# Altium schematic symbol library Timer_PLL.SchLib: 21 symbols
Pins are listed as number, name and electrical type; pins without a type are passive.

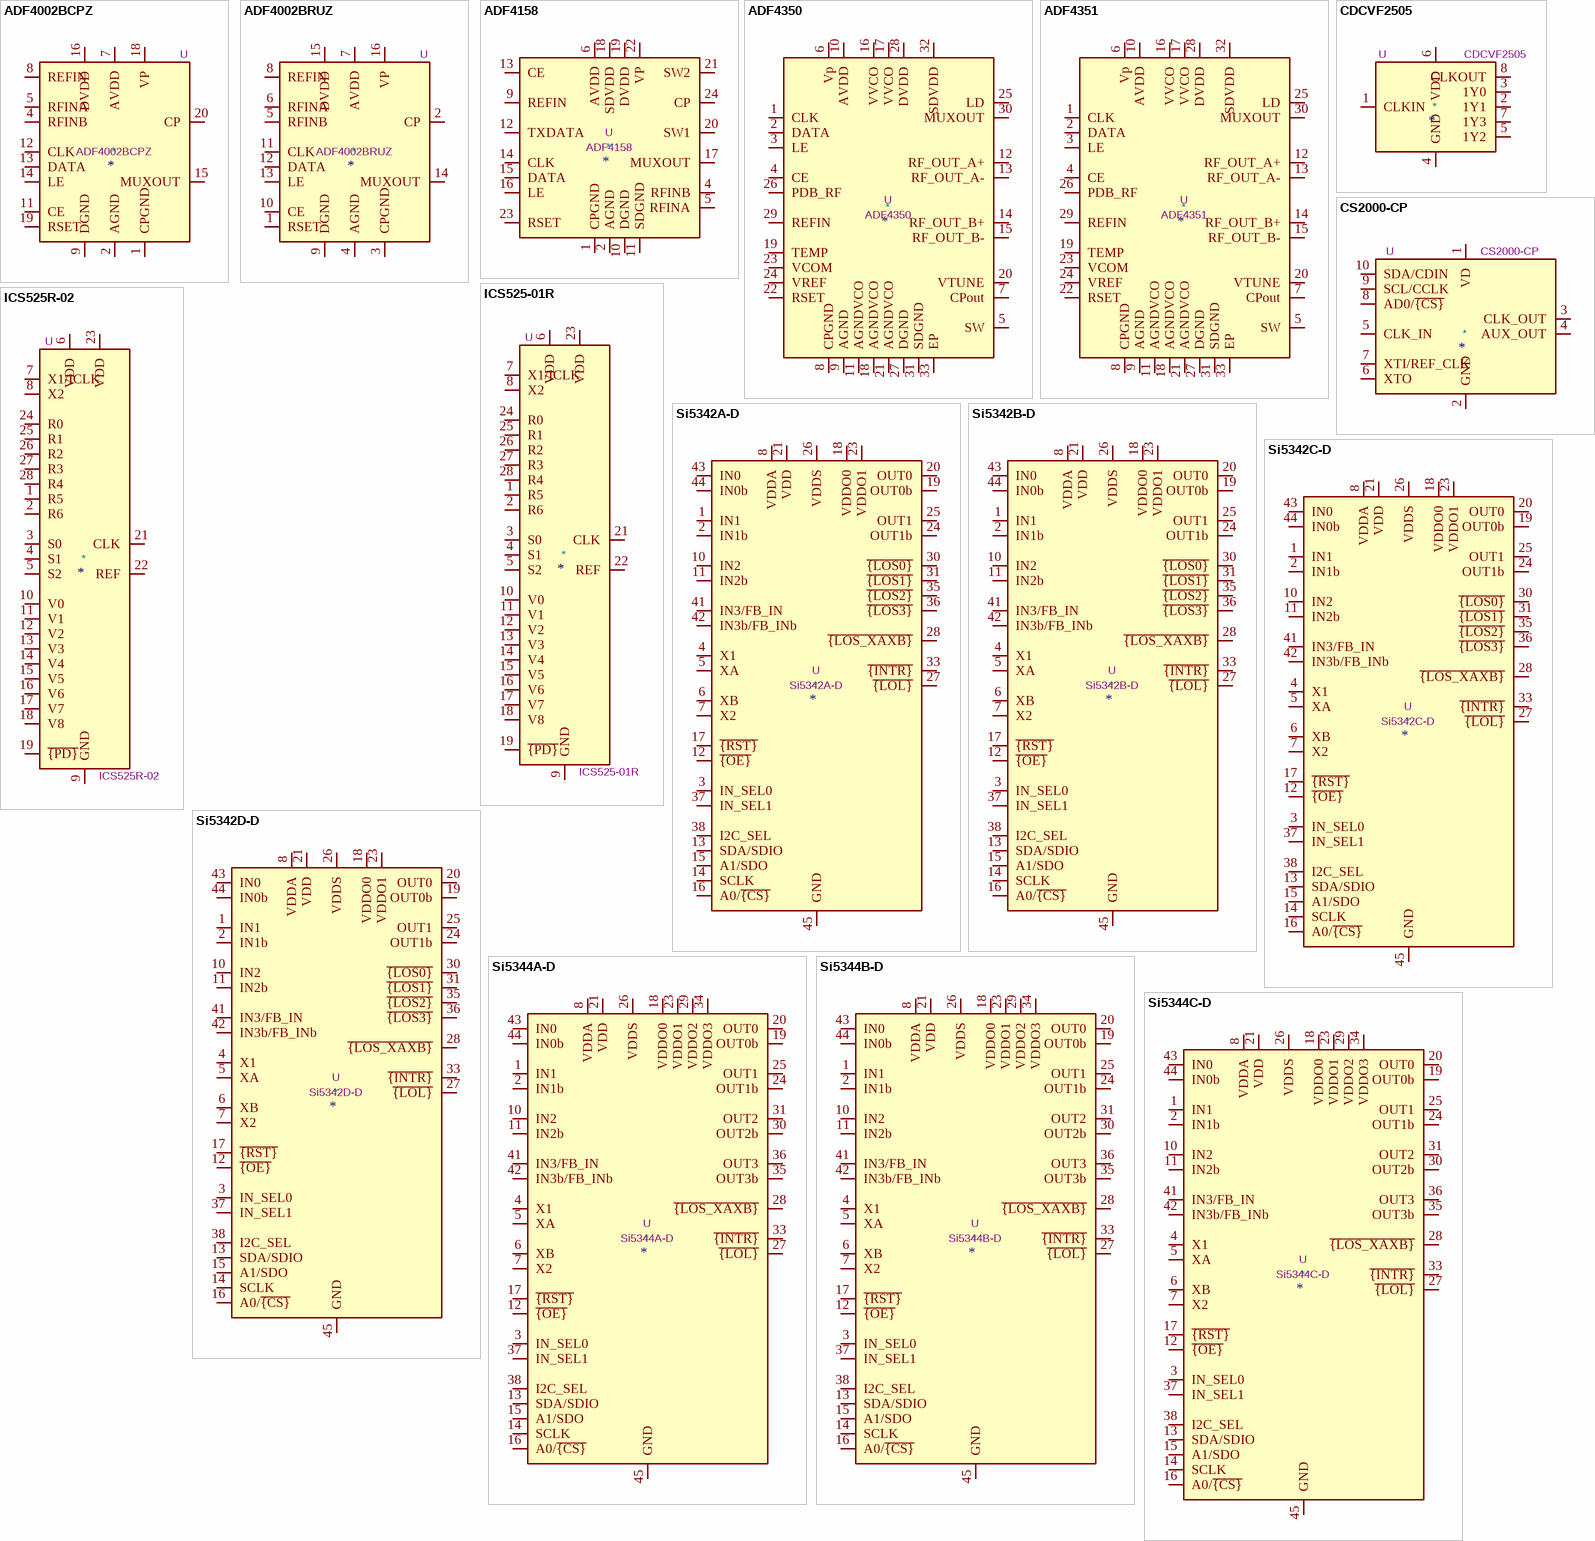
[diagram p0: symbols ADF4002BCPZ to Si5344C-D]

## ADF4002BCPZ
designator *  value ADF4002BCPZ  Reference: U
ki_keywords: Analog Devices PFD; ki_description: 400MHz Bandwidth Frequency Synthesizer, LFCSP-20; ki_fp_filters: LFCSP*1EP*4x4mm*P0.5mm*; Footprint: Package_CSP:LFCSP-20-1EP_4x4mm_P0.5mm_EP2.1x2.1mm; Datasheet: https://www.analog.com/media/en/technical-documentation/data-sheets/ADF4002.pdf
pins: 1 CPGND, 2 AGND, 3 AGND hidden, 4 RFINB, 5 RFINA, 6 AVDD hidden, 7 AVDD, 8 REFIN, 9 DGND, 10 DGND hidden, 11 CE, 12 CLK, 13 DATA, 14 LE, 15 MUXOUT, 16 DVDD, 17 DVDD hidden, 18 VP, 19 RSET, 20 CP, 21 AGND hidden

## ADF4002BRUZ
designator *  value ADF4002BRUZ  Reference: U
ki_keywords: Analog Devices PFD; ki_description: 400MHz Bandwidth Frequency Synthesizer, TSSOP-16; ki_fp_filters: TSSOP*4.4x5mm*P0.65mm*; Footprint: Package_SO:TSSOP-16_4.4x5mm_P0.65mm; Datasheet: https://www.analog.com/media/en/technical-documentation/data-sheets/ADF4002.pdf
pins: 1 RSET, 2 CP, 3 CPGND, 4 AGND, 5 RFINB, 6 RFINA, 7 AVDD, 8 REFIN, 9 DGND, 10 CE, 11 CLK, 12 DATA, 13 LE, 14 MUXOUT, 15 DVDD, 16 VP

## ADF4158
designator *  value ADF4158  Reference: U
ki_keywords: fractional-N PLL; ki_description: 0.5-6.1GHz fractional-N PLL, LFCSP-24; ki_fp_filters: LFCSP*1EP*4x4mm*P0.5mm*; Footprint: Package_CSP:LFCSP-24-1EP_4x4mm_P0.5mm_EP2.5x2.5mm; Datasheet: https://www.analog.com/media/en/technical-documentation/data-sheets/ADF4158.pdf
pins: 1 CPGND, 2 AGND, 3 AGND hidden, 4 RFINB, 5 RFINA, 6 AVDD, 7 AVDD hidden, 8 AVDD hidden, 9 REFIN, 10 DGND, 11 SDGND, 12 TXDATA, 13 CE, 14 CLK, 15 DATA, 16 LE, 17 MUXOUT, 18 SDVDD, 19 DVDD, 20 SW1, 21 SW2, 22 VP, 23 RSET, 24 CP, 25 AGND hidden

## ADF4350
designator *  value ADF4350  Reference: U
ki_keywords: fractional-N PLL; ki_description: 137.5-4400MHz fractional-N PLL, LFCSP-32; ki_fp_filters: LFCSP*32*1EP*5x5mm*P0.5mm*EP3.25x3.25mm*; Footprint: Package_CSP:LFCSP-32-1EP_5x5mm_P0.5mm_EP3.25x3.25mm; Datasheet: https://www.analog.com/media/en/technical-documentation/data-sheets/ADF4350.pdf
pins: 1 CLK, 2 DATA, 3 LE, 4 CE, 5 SW, 6 Vp, 7 CPout, 8 CPGND, 9 AGND, 10 AVDD, 11 AGNDVCO, 12 RF_OUT_A+, 13 RF_OUT_A-, 14 RF_OUT_B+, 15 RF_OUT_B-, 16 VVCO, 17 VVCO, 18 AGNDVCO, 19 TEMP, 20 VTUNE, 21 AGNDVCO, 22 RSET, 23 VCOM, 24 VREF, 25 LD, 26 PDB_RF, 27 DGND, 28 DVDD, 29 REFIN, 30 MUXOUT, 31 SDGND, 32 SDVDD, 33 EP

## ADF4351
designator *  value ADF4351  Reference: U
ki_keywords: fractional-N PLL; ki_description: 35-4400MHz fractional-N PLL, LFCSP-32; ki_fp_filters: LFCSP*32*1EP*5x5mm*P0.5mm*EP3.25x3.25mm*; Footprint: Package_CSP:LFCSP-32-1EP_5x5mm_P0.5mm_EP3.25x3.25mm; Datasheet: https://www.analog.com/media/en/technical-documentation/data-sheets/ADF4351.pdf
pins: 1 CLK, 2 DATA, 3 LE, 4 CE, 5 SW, 6 Vp, 7 CPout, 8 CPGND, 9 AGND, 10 AVDD, 11 AGNDVCO, 12 RF_OUT_A+, 13 RF_OUT_A-, 14 RF_OUT_B+, 15 RF_OUT_B-, 16 VVCO, 17 VVCO, 18 AGNDVCO, 19 TEMP, 20 VTUNE, 21 AGNDVCO, 22 RSET, 23 VCOM, 24 VREF, 25 LD, 26 PDB_RF, 27 DGND, 28 DVDD, 29 REFIN, 30 MUXOUT, 31 SDGND, 32 SDVDD, 33 EP

## CDCVF2505
designator *  value CDCVF2505  Reference: U
ki_keywords: pll clock driver; ki_description: Clock Phase-Lock Loop Clock Driver, 24-200MHz, 3.3V, SOIC-8/TSSOP-8; ki_fp_filters: SOIC*3.9x4.9mm*P1.27mm* TSSOP*4.4x3mm*P0.65mm*; Datasheet: http://www.ti.com/lit/ds/symlink/cdcvf2505.pdf
pins: 1 CLKIN, 2 1Y1, 3 1Y0, 4 GND, 5 1Y2, 6 VDD, 7 1Y3, 8 CLKOUT

## CS2000-CP
designator *  value CS2000-CP  Reference: U
ki_keywords: Clock Synthesizer Multiplier; ki_description: Fractional-N Clock Synthesizer & Clock Multiplier, MSOP-10; ki_fp_filters: MSOP*3x3mm*P0.5mm*; Footprint: Package_SO:MSOP-10_3x3mm_P0.5mm; Datasheet: https://statics.cirrus.com/pubs/proDatasheet/CS2000-CP_F3.pdf
pins: 1 VD, 2 GND, 3 CLK_OUT, 4 AUX_OUT, 5 CLK_IN, 6 XTO, 7 XTI/REF_CLK, 8 AD0/~{{CS}}, 9 SCL/CCLK, 10 SDA/CDIN

## ICS525-01R
designator *  value ICS525-01R  Reference: U
ki_keywords: Configurable clock; ki_description: User configurable clock up to 160 MHz, SSOP-28; ki_fp_filters: SSOP*3.9x9.9mm*P0.635mm*; Footprint: Package_SO:SSOP-28_3.9x9.9mm_P0.635mm; Datasheet: https://www.idt.com/document/dst/525-01-02-datasheet
pins: 1 R5, 2 R6, 3 S0, 4 S1, 5 S2, 6 VDD, 7 X1/ICLK, 8 X2, 9 GND, 10 V0, 11 V1, 12 V2, 13 V3, 14 V4, 15 V5, 16 V6, 17 V7, 18 V8, 19 ~{{PD}}, 20 GND hidden, 21 CLK, 22 REF, 23 VDD, 24 R0, 25 R1, 26 R2, 27 R3, 28 R4

## ICS525R-02
designator *  value ICS525R-02  Reference: U
ki_keywords: Configurable clock; ki_description: User configurable clock up to 200 MHz, SSOP-28; ki_fp_filters: SSOP*3.9x9.9mm*P0.635mm*; Footprint: Package_SO:SSOP-28_3.9x9.9mm_P0.635mm; Datasheet: https://www.idt.com/document/dst/525-01-02-datasheet
pins: 1 R5, 2 R6, 3 S0, 4 S1, 5 S2, 6 VDD, 7 X1/ICLK, 8 X2, 9 GND, 10 V0, 11 V1, 12 V2, 13 V3, 14 V4, 15 V5, 16 V6, 17 V7, 18 V8, 19 ~{{PD}}, 20 GND hidden, 21 CLK, 22 REF, 23 VDD, 24 R0, 25 R1, 26 R2, 27 R3, 28 R4

## Si5342A-D
designator *  value Si5342A-D  Reference: U
ki_keywords: Clock Jitter Attenuator Multiplier; ki_description: Jitter Attenuator/Clock Multiplier, 2 channel, Fractional, 0.001-1028 MHz, QFN-44; ki_fp_filters: QFN*1EP*7x7mm*P0.5mm*; Footprint: Package_DFN_QFN:QFN-44-1EP_7x7mm_P0.5mm_EP5.2x5.2mm; Datasheet: https://www.silabs.com/documents/public/data-sheets/Si5345-44-42-D-DataSheet.pdf
pins: 1 IN1, 2 IN1b, 3 IN_SEL0, 4 X1, 5 XA, 6 XB, 7 X2, 8 VDDA, 9 VDDA hidden, 10 IN2, 11 IN2b, 12 ~{{OE}}, 13 SDA/SDIO, 14 SCLK, 15 A1/SDO, 16 A0/~{{CS}}, 17 ~{{RST}}, 18 VDDO0, 19 OUT0b, 20 OUT0, 21 VDD, 22 NC hidden, 23 VDDO1, 24 OUT1b, 25 OUT1, 26 VDDS, 27 ~{{LOL}}, 28 ~{{LOS_XAXB}}, 29 VDDS hidden, 30 ~{{LOS0}}, 31 ~{{LOS1}}, 32 VDD hidden, 33 ~{{INTR}}, 34 VDDS hidden, 35 ~{{LOS2}}, 36 ~{{LOS3}}, 37 IN_SEL1, 38 I2C_SEL, 39 VDD hidden, 40 VDD hidden, 41 IN3/FB_IN, 42 IN3b/FB_INb, 43 IN0, 44 IN0b, 45 GND

## Si5342B-D
designator *  value Si5342B-D  Reference: U
ki_keywords: Clock Jitter Attenuator Multiplier; ki_description: Jitter Attenuator/Clock Multiplier, 2 channel, Fractional, 0.001-350 MHz, QFN-44; ki_fp_filters: QFN*1EP*7x7mm*P0.5mm*; Footprint: Package_DFN_QFN:QFN-44-1EP_7x7mm_P0.5mm_EP5.2x5.2mm; Datasheet: https://www.silabs.com/documents/public/data-sheets/Si5345-44-42-D-DataSheet.pdf
pins: 1 IN1, 2 IN1b, 3 IN_SEL0, 4 X1, 5 XA, 6 XB, 7 X2, 8 VDDA, 9 VDDA hidden, 10 IN2, 11 IN2b, 12 ~{{OE}}, 13 SDA/SDIO, 14 SCLK, 15 A1/SDO, 16 A0/~{{CS}}, 17 ~{{RST}}, 18 VDDO0, 19 OUT0b, 20 OUT0, 21 VDD, 22 NC hidden, 23 VDDO1, 24 OUT1b, 25 OUT1, 26 VDDS, 27 ~{{LOL}}, 28 ~{{LOS_XAXB}}, 29 VDDS hidden, 30 ~{{LOS0}}, 31 ~{{LOS1}}, 32 VDD hidden, 33 ~{{INTR}}, 34 VDDS hidden, 35 ~{{LOS2}}, 36 ~{{LOS3}}, 37 IN_SEL1, 38 I2C_SEL, 39 VDD hidden, 40 VDD hidden, 41 IN3/FB_IN, 42 IN3b/FB_INb, 43 IN0, 44 IN0b, 45 GND

## Si5342C-D
designator *  value Si5342C-D  Reference: U
ki_keywords: Clock Jitter Attenuator Multiplier; ki_description: Jitter Attenuator/Clock Multiplier, 2 channel, Integer, 0.001-1028 MHz, QFN-44; ki_fp_filters: QFN*1EP*7x7mm*P0.5mm*; Footprint: Package_DFN_QFN:QFN-44-1EP_7x7mm_P0.5mm_EP5.2x5.2mm; Datasheet: https://www.silabs.com/documents/public/data-sheets/Si5345-44-42-D-DataSheet.pdf
pins: 1 IN1, 2 IN1b, 3 IN_SEL0, 4 X1, 5 XA, 6 XB, 7 X2, 8 VDDA, 9 VDDA hidden, 10 IN2, 11 IN2b, 12 ~{{OE}}, 13 SDA/SDIO, 14 SCLK, 15 A1/SDO, 16 A0/~{{CS}}, 17 ~{{RST}}, 18 VDDO0, 19 OUT0b, 20 OUT0, 21 VDD, 22 NC hidden, 23 VDDO1, 24 OUT1b, 25 OUT1, 26 VDDS, 27 ~{{LOL}}, 28 ~{{LOS_XAXB}}, 29 VDDS hidden, 30 ~{{LOS0}}, 31 ~{{LOS1}}, 32 VDD hidden, 33 ~{{INTR}}, 34 VDDS hidden, 35 ~{{LOS2}}, 36 ~{{LOS3}}, 37 IN_SEL1, 38 I2C_SEL, 39 VDD hidden, 40 VDD hidden, 41 IN3/FB_IN, 42 IN3b/FB_INb, 43 IN0, 44 IN0b, 45 GND

## Si5342D-D
designator *  value Si5342D-D  Reference: U
ki_keywords: Clock Jitter Attenuator Multiplier; ki_description: Jitter Attenuator/Clock Multiplier, 2 channel, Integer, 0.001-350 MHz, QFN-44; ki_fp_filters: QFN*1EP*7x7mm*P0.5mm*; Footprint: Package_DFN_QFN:QFN-44-1EP_7x7mm_P0.5mm_EP5.2x5.2mm; Datasheet: https://www.silabs.com/documents/public/data-sheets/Si5345-44-42-D-DataSheet.pdf
pins: 1 IN1, 2 IN1b, 3 IN_SEL0, 4 X1, 5 XA, 6 XB, 7 X2, 8 VDDA, 9 VDDA hidden, 10 IN2, 11 IN2b, 12 ~{{OE}}, 13 SDA/SDIO, 14 SCLK, 15 A1/SDO, 16 A0/~{{CS}}, 17 ~{{RST}}, 18 VDDO0, 19 OUT0b, 20 OUT0, 21 VDD, 22 NC hidden, 23 VDDO1, 24 OUT1b, 25 OUT1, 26 VDDS, 27 ~{{LOL}}, 28 ~{{LOS_XAXB}}, 29 VDDS hidden, 30 ~{{LOS0}}, 31 ~{{LOS1}}, 32 VDD hidden, 33 ~{{INTR}}, 34 VDDS hidden, 35 ~{{LOS2}}, 36 ~{{LOS3}}, 37 IN_SEL1, 38 I2C_SEL, 39 VDD hidden, 40 VDD hidden, 41 IN3/FB_IN, 42 IN3b/FB_INb, 43 IN0, 44 IN0b, 45 GND

## Si5344A-D
designator *  value Si5344A-D  Reference: U
ki_keywords: Clock Jitter Attenuator Multiplier; ki_description: Jitter Attenuator/Clock Multiplier, 4 channel, Fractional, 0.001-1028 MHz, QFN-44; ki_fp_filters: QFN*1EP*7x7mm*P0.5mm*; Footprint: Package_DFN_QFN:QFN-44-1EP_7x7mm_P0.5mm_EP5.2x5.2mm; Datasheet: https://www.silabs.com/documents/public/data-sheets/Si5345-44-42-D-DataSheet.pdf
pins: 1 IN1, 2 IN1b, 3 IN_SEL0, 4 X1, 5 XA, 6 XB, 7 X2, 8 VDDA, 9 VDDA hidden, 10 IN2, 11 IN2b, 12 ~{{OE}}, 13 SDA/SDIO, 14 SCLK, 15 A1/SDO, 16 A0/~{{CS}}, 17 ~{{RST}}, 18 VDDO0, 19 OUT0b, 20 OUT0, 21 VDD, 22 NC hidden, 23 VDDO1, 24 OUT1b, 25 OUT1, 26 VDDS, 27 ~{{LOL}}, 28 ~{{LOS_XAXB}}, 29 VDDO2, 30 OUT2b, 31 OUT2, 32 VDD hidden, 33 ~{{INTR}}, 34 VDDO3, 35 OUT3b, 36 OUT3, 37 IN_SEL1, 38 I2C_SEL, 39 VDD hidden, 40 VDD hidden, 41 IN3/FB_IN, 42 IN3b/FB_INb, 43 IN0, 44 IN0b, 45 GND

## Si5344B-D
designator *  value Si5344B-D  Reference: U
ki_keywords: Clock Jitter Attenuator Multiplier; ki_description: Jitter Attenuator/Clock Multiplier, 4 channel, Fractional, 0.001-350 MHz, QFN-44; ki_fp_filters: QFN*1EP*7x7mm*P0.5mm*; Footprint: Package_DFN_QFN:QFN-44-1EP_7x7mm_P0.5mm_EP5.2x5.2mm; Datasheet: https://www.silabs.com/documents/public/data-sheets/Si5345-44-42-D-DataSheet.pdf
pins: 1 IN1, 2 IN1b, 3 IN_SEL0, 4 X1, 5 XA, 6 XB, 7 X2, 8 VDDA, 9 VDDA hidden, 10 IN2, 11 IN2b, 12 ~{{OE}}, 13 SDA/SDIO, 14 SCLK, 15 A1/SDO, 16 A0/~{{CS}}, 17 ~{{RST}}, 18 VDDO0, 19 OUT0b, 20 OUT0, 21 VDD, 22 NC hidden, 23 VDDO1, 24 OUT1b, 25 OUT1, 26 VDDS, 27 ~{{LOL}}, 28 ~{{LOS_XAXB}}, 29 VDDO2, 30 OUT2b, 31 OUT2, 32 VDD hidden, 33 ~{{INTR}}, 34 VDDO3, 35 OUT3b, 36 OUT3, 37 IN_SEL1, 38 I2C_SEL, 39 VDD hidden, 40 VDD hidden, 41 IN3/FB_IN, 42 IN3b/FB_INb, 43 IN0, 44 IN0b, 45 GND

## Si5344C-D
designator *  value Si5344C-D  Reference: U
ki_keywords: Clock Jitter Attenuator Multiplier; ki_description: Jitter Attenuator/Clock Multiplier, 4 channel, Integer, 0.001-1028 MHz, QFN-44; ki_fp_filters: QFN*1EP*7x7mm*P0.5mm*; Footprint: Package_DFN_QFN:QFN-44-1EP_7x7mm_P0.5mm_EP5.2x5.2mm; Datasheet: https://www.silabs.com/documents/public/data-sheets/Si5345-44-42-D-DataSheet.pdf
pins: 1 IN1, 2 IN1b, 3 IN_SEL0, 4 X1, 5 XA, 6 XB, 7 X2, 8 VDDA, 9 VDDA hidden, 10 IN2, 11 IN2b, 12 ~{{OE}}, 13 SDA/SDIO, 14 SCLK, 15 A1/SDO, 16 A0/~{{CS}}, 17 ~{{RST}}, 18 VDDO0, 19 OUT0b, 20 OUT0, 21 VDD, 22 NC hidden, 23 VDDO1, 24 OUT1b, 25 OUT1, 26 VDDS, 27 ~{{LOL}}, 28 ~{{LOS_XAXB}}, 29 VDDO2, 30 OUT2b, 31 OUT2, 32 VDD hidden, 33 ~{{INTR}}, 34 VDDO3, 35 OUT3b, 36 OUT3, 37 IN_SEL1, 38 I2C_SEL, 39 VDD hidden, 40 VDD hidden, 41 IN3/FB_IN, 42 IN3b/FB_INb, 43 IN0, 44 IN0b, 45 GND

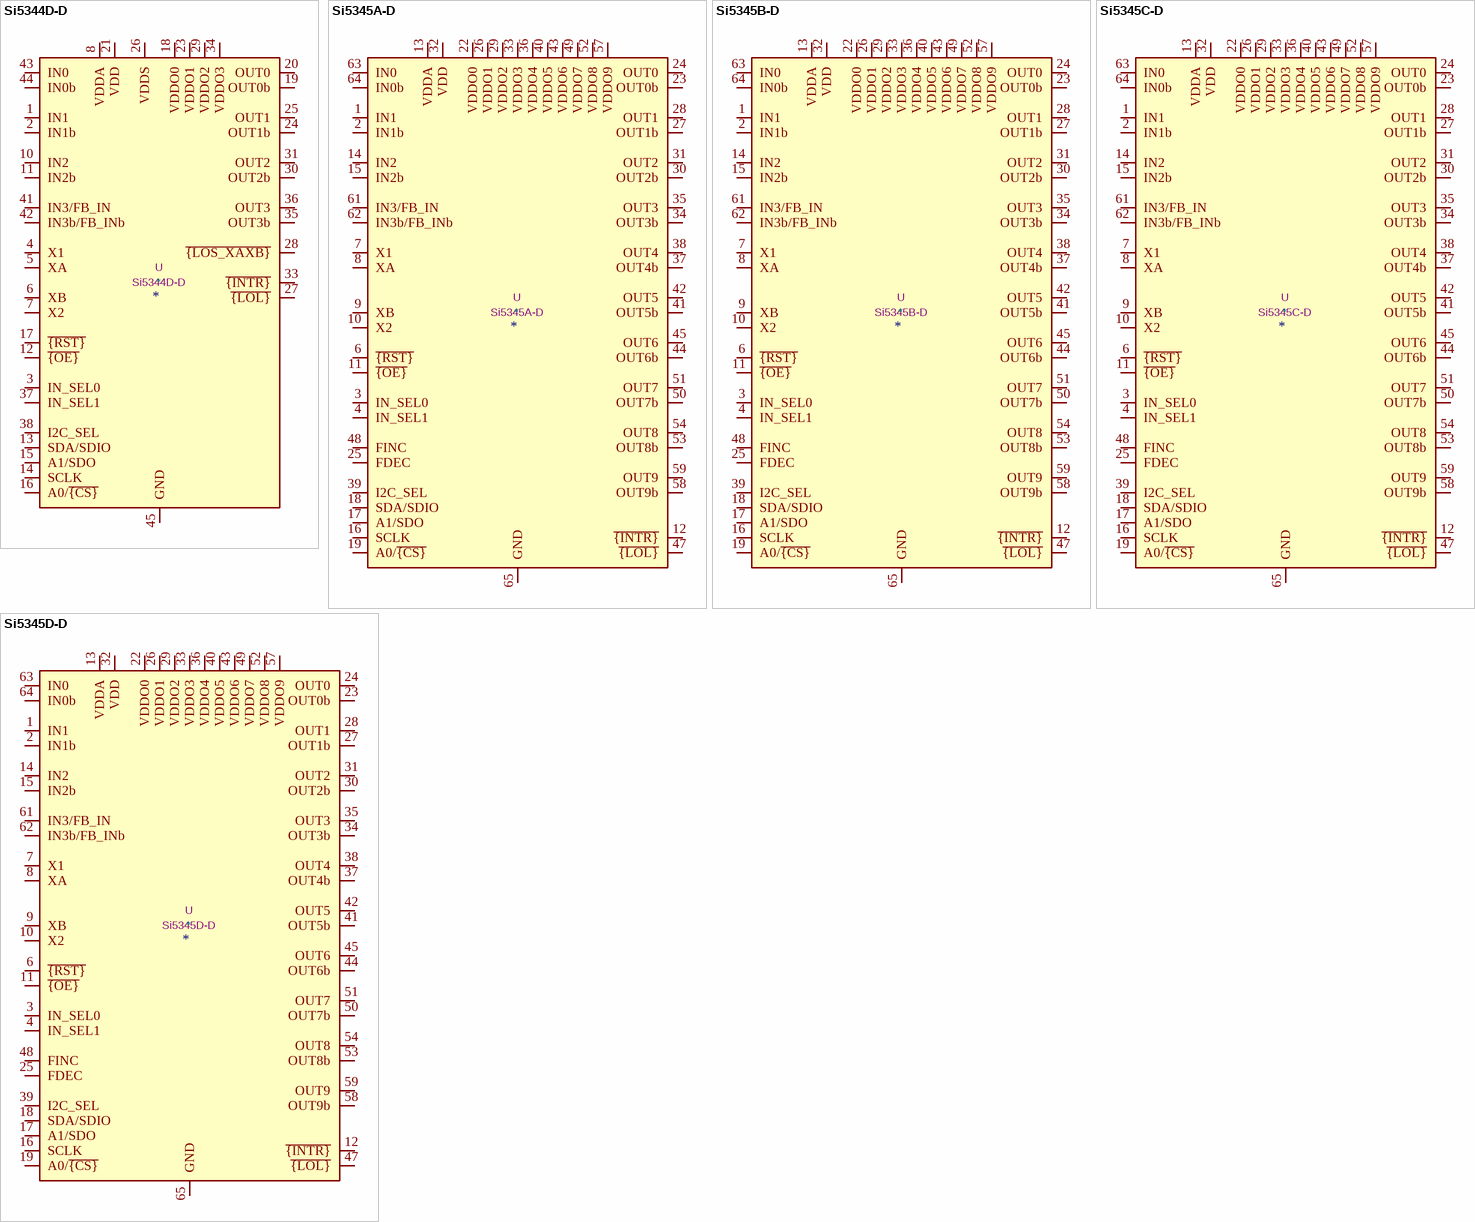
[diagram p1: symbols Si5344D-D to Si5345D-D]

## Si5344D-D
designator *  value Si5344D-D  Reference: U
ki_keywords: Clock Jitter Attenuator Multiplier; ki_description: Jitter Attenuator/Clock Multiplier, 4 channel, Integer, 0.001-350 MHz, QFN-44; ki_fp_filters: QFN*1EP*7x7mm*P0.5mm*; Footprint: Package_DFN_QFN:QFN-44-1EP_7x7mm_P0.5mm_EP5.2x5.2mm; Datasheet: https://www.silabs.com/documents/public/data-sheets/Si5345-44-42-D-DataSheet.pdf
pins: 1 IN1, 2 IN1b, 3 IN_SEL0, 4 X1, 5 XA, 6 XB, 7 X2, 8 VDDA, 9 VDDA hidden, 10 IN2, 11 IN2b, 12 ~{{OE}}, 13 SDA/SDIO, 14 SCLK, 15 A1/SDO, 16 A0/~{{CS}}, 17 ~{{RST}}, 18 VDDO0, 19 OUT0b, 20 OUT0, 21 VDD, 22 NC hidden, 23 VDDO1, 24 OUT1b, 25 OUT1, 26 VDDS, 27 ~{{LOL}}, 28 ~{{LOS_XAXB}}, 29 VDDO2, 30 OUT2b, 31 OUT2, 32 VDD hidden, 33 ~{{INTR}}, 34 VDDO3, 35 OUT3b, 36 OUT3, 37 IN_SEL1, 38 I2C_SEL, 39 VDD hidden, 40 VDD hidden, 41 IN3/FB_IN, 42 IN3b/FB_INb, 43 IN0, 44 IN0b, 45 GND

## Si5345A-D
designator *  value Si5345A-D  Reference: U
ki_keywords: Clock Jitter Attenuator Multiplier; ki_description: Jitter Attenuator/Clock Multiplier, 10-channel, Fractional, 0.001-1028 MHz, QFN-64; ki_fp_filters: QFN*1EP*9x9mm*P0.5mm*; Footprint: Package_DFN_QFN:QFN-64-1EP_9x9mm_P0.5mm_EP5.2x5.2mm; Datasheet: https://www.silabs.com/documents/public/data-sheets/Si5345-44-42-D-DataSheet.pdf
pins: 1 IN1, 2 IN1b, 3 IN_SEL0, 4 IN_SEL1, 5 NC hidden, 6 ~{{RST}}, 7 X1, 8 XA, 9 XB, 10 X2, 11 ~{{OE}}, 12 ~{{INTR}}, 13 VDDA, 14 IN2, 15 IN2b, 16 SCLK, 17 A1/SDO, 18 SDA/SDIO, 19 A0/~{{CS}}, 20 NC hidden, 21 NC hidden, 22 VDDO0, 23 OUT0b, 24 OUT0, 25 FDEC, 26 VDDO1, 27 OUT1b, 28 OUT1, 29 VDDO2, 30 OUT2b, 31 OUT2, 32 VDD, 33 VDDO3, 34 OUT3b, 35 OUT3, 36 VDDO4, 37 OUT4b, 38 OUT4, 39 I2C_SEL, 40 VDDO5, 41 OUT5b, 42 OUT5, 43 VDDO6, 44 OUT6b, 45 OUT6, 46 VDD hidden, 47 ~{{LOL}}, 48 FINC, 49 VDDO7, 50 OUT7b, 51 OUT7, 52 VDDO8, 53 OUT8b, 54 OUT8, 55 NC hidden, 56 NC hidden, 57 VDDO9, 58 OUT9b, 59 OUT9, 60 VDD hidden, 61 IN3/FB_IN, 62 IN3b/FB_INb, 63 IN0, 64 IN0b, 65 GND

## Si5345B-D
designator *  value Si5345B-D  Reference: U
ki_keywords: Clock Jitter Attenuator Multiplier; ki_description: Jitter Attenuator/Clock Multiplier, 10-channel, Fractional, 0.001-350 MHz, QFN-64; ki_fp_filters: QFN*1EP*9x9mm*P0.5mm*; Footprint: Package_DFN_QFN:QFN-64-1EP_9x9mm_P0.5mm_EP5.2x5.2mm; Datasheet: https://www.silabs.com/documents/public/data-sheets/Si5345-44-42-D-DataSheet.pdf
pins: 1 IN1, 2 IN1b, 3 IN_SEL0, 4 IN_SEL1, 5 NC hidden, 6 ~{{RST}}, 7 X1, 8 XA, 9 XB, 10 X2, 11 ~{{OE}}, 12 ~{{INTR}}, 13 VDDA, 14 IN2, 15 IN2b, 16 SCLK, 17 A1/SDO, 18 SDA/SDIO, 19 A0/~{{CS}}, 20 NC hidden, 21 NC hidden, 22 VDDO0, 23 OUT0b, 24 OUT0, 25 FDEC, 26 VDDO1, 27 OUT1b, 28 OUT1, 29 VDDO2, 30 OUT2b, 31 OUT2, 32 VDD, 33 VDDO3, 34 OUT3b, 35 OUT3, 36 VDDO4, 37 OUT4b, 38 OUT4, 39 I2C_SEL, 40 VDDO5, 41 OUT5b, 42 OUT5, 43 VDDO6, 44 OUT6b, 45 OUT6, 46 VDD hidden, 47 ~{{LOL}}, 48 FINC, 49 VDDO7, 50 OUT7b, 51 OUT7, 52 VDDO8, 53 OUT8b, 54 OUT8, 55 NC hidden, 56 NC hidden, 57 VDDO9, 58 OUT9b, 59 OUT9, 60 VDD hidden, 61 IN3/FB_IN, 62 IN3b/FB_INb, 63 IN0, 64 IN0b, 65 GND

## Si5345C-D
designator *  value Si5345C-D  Reference: U
ki_keywords: Clock Jitter Attenuator Multiplier; ki_description: Jitter Attenuator/Clock Multiplier, 10-channel, Integer, 0.001-1028 MHz, QFN-64; ki_fp_filters: QFN*1EP*9x9mm*P0.5mm*; Footprint: Package_DFN_QFN:QFN-64-1EP_9x9mm_P0.5mm_EP5.2x5.2mm; Datasheet: https://www.silabs.com/documents/public/data-sheets/Si5345-44-42-D-DataSheet.pdf
pins: 1 IN1, 2 IN1b, 3 IN_SEL0, 4 IN_SEL1, 5 NC hidden, 6 ~{{RST}}, 7 X1, 8 XA, 9 XB, 10 X2, 11 ~{{OE}}, 12 ~{{INTR}}, 13 VDDA, 14 IN2, 15 IN2b, 16 SCLK, 17 A1/SDO, 18 SDA/SDIO, 19 A0/~{{CS}}, 20 NC hidden, 21 NC hidden, 22 VDDO0, 23 OUT0b, 24 OUT0, 25 FDEC, 26 VDDO1, 27 OUT1b, 28 OUT1, 29 VDDO2, 30 OUT2b, 31 OUT2, 32 VDD, 33 VDDO3, 34 OUT3b, 35 OUT3, 36 VDDO4, 37 OUT4b, 38 OUT4, 39 I2C_SEL, 40 VDDO5, 41 OUT5b, 42 OUT5, 43 VDDO6, 44 OUT6b, 45 OUT6, 46 VDD hidden, 47 ~{{LOL}}, 48 FINC, 49 VDDO7, 50 OUT7b, 51 OUT7, 52 VDDO8, 53 OUT8b, 54 OUT8, 55 NC hidden, 56 NC hidden, 57 VDDO9, 58 OUT9b, 59 OUT9, 60 VDD hidden, 61 IN3/FB_IN, 62 IN3b/FB_INb, 63 IN0, 64 IN0b, 65 GND

## Si5345D-D
designator *  value Si5345D-D  Reference: U
ki_keywords: Clock Jitter Attenuator Multiplier; ki_description: Jitter Attenuator/Clock Multiplier, 10-channel, Integer, 0.001-350 MHz, QFN-64; ki_fp_filters: QFN*1EP*9x9mm*P0.5mm*; Footprint: Package_DFN_QFN:QFN-64-1EP_9x9mm_P0.5mm_EP5.2x5.2mm; Datasheet: https://www.silabs.com/documents/public/data-sheets/Si5345-44-42-D-DataSheet.pdf
pins: 1 IN1, 2 IN1b, 3 IN_SEL0, 4 IN_SEL1, 5 NC hidden, 6 ~{{RST}}, 7 X1, 8 XA, 9 XB, 10 X2, 11 ~{{OE}}, 12 ~{{INTR}}, 13 VDDA, 14 IN2, 15 IN2b, 16 SCLK, 17 A1/SDO, 18 SDA/SDIO, 19 A0/~{{CS}}, 20 NC hidden, 21 NC hidden, 22 VDDO0, 23 OUT0b, 24 OUT0, 25 FDEC, 26 VDDO1, 27 OUT1b, 28 OUT1, 29 VDDO2, 30 OUT2b, 31 OUT2, 32 VDD, 33 VDDO3, 34 OUT3b, 35 OUT3, 36 VDDO4, 37 OUT4b, 38 OUT4, 39 I2C_SEL, 40 VDDO5, 41 OUT5b, 42 OUT5, 43 VDDO6, 44 OUT6b, 45 OUT6, 46 VDD hidden, 47 ~{{LOL}}, 48 FINC, 49 VDDO7, 50 OUT7b, 51 OUT7, 52 VDDO8, 53 OUT8b, 54 OUT8, 55 NC hidden, 56 NC hidden, 57 VDDO9, 58 OUT9b, 59 OUT9, 60 VDD hidden, 61 IN3/FB_IN, 62 IN3b/FB_INb, 63 IN0, 64 IN0b, 65 GND